# EAGLE library part MMA7660 (library Supernode-Sensors)
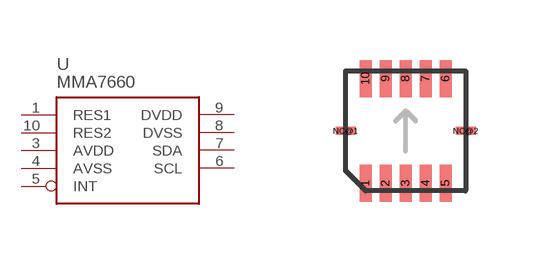
[diagram p2: symbol with the pads of DFN10-ACC; footprint DFN10-ACC]

Designator prefix U

## MMA7660  [DFN10-ACC]
1  RES1  in
3  AVDD  pwr
4  AVSS  pwr
5  INT  out
6  SCL  in
7  SDA  hiz
8  DVSS  pwr
9  DVDD  pwr
10  RES2  in

## Footprint DFN10-ACC (pad centres in mm)
smd 0.3 x 0.925: 1 -1,-1.31; 2 -0.5,-1.31; 3 0,-1.31; 4 0.5,-1.31; 5 1,-1.31; 6 1,1.31; 7 0.5,1.31; 8 0,1.31; 9 -0.5,1.31; 10 -1,1.31
smd 0.5 x 0.2: NC@1 -1.5,0; NC@2 1.5,0